# Altium schematic symbol library Schlib2.SchLib: 1 symbol
Pins are listed as number, name and electrical type; pins without a type are passive.

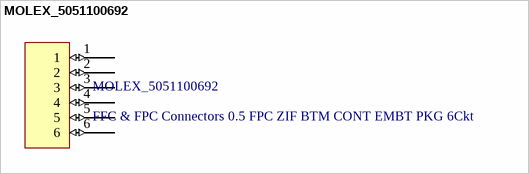
[diagram p0: symbol MOLEX_5051100692]

## MOLEX_5051100692
designator MOLEX_5051100692, comment FFC & FPC Connectors 0.5 FPC ZIF BTM CONT EMBT PKG 6Ckt
footprint MOLEX_5051100692 (FFC & FPC Connectors 0.5 FPC ZIF BTM CONT EMBT PKG 6Ckt)
pins: 1 (io), 2 (io), 3 (io), 4 (io), 5 (io), 6 (io)